# Altium footprint library FootSmell.PcbLib: 5 footprints
Each footprint in its own frame and in the unit in brackets; x right, y up, seen from the top. Pads: shape width x height; smd on the part's side, far side on the other; paste and mask are expansions set on the pad; w line width, h text height; cw(c..) or ccw(c..) is an arc to the next point about the centre after c.
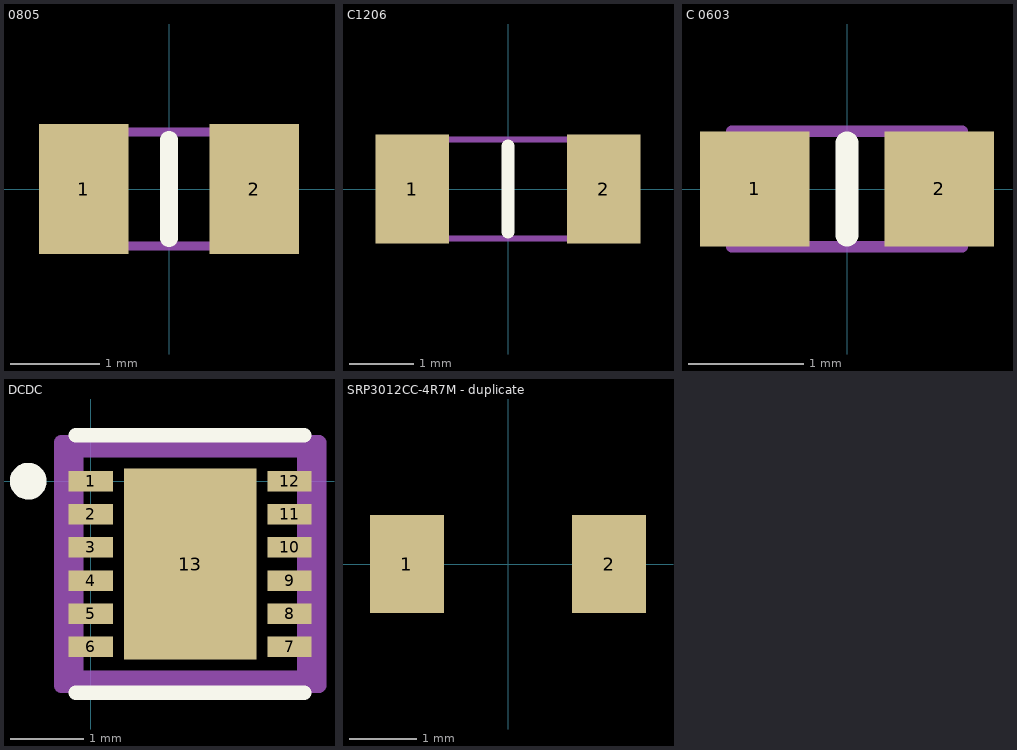
[diagram p0: the footprints below, top view; thin cyan lines are the x and y axes]

## 0805 [mm]
pads (2):
  rect 1x1.45 smd: 1(-0.95,0) 2(0.95,0)
Top Overlay:
  lines w0.2: 0,-0.55 0,0.55
Mechanical 15:
  lines w0.1: -1.397,-0.635 1.397,-0.635 1.397,0.635 -1.397,0.635 -1.397,-0.635
3D body "ERA-6AEB124V.stp": height 0.7, standoff 0.2, extent -1,-0.625 1,0.625

## C1206 [mm]
pads (2):
  rect 1.15x1.7 smd: 1(-1.5,0) 2(1.5,0)
Top Overlay:
  lines w0.2: 0,-0.675 0,0.675
Mechanical 15:
  lines w0.1: -1.6,-0.775 1.6,-0.775 1.6,0.775 -1.6,0.775 -1.6,-0.775
3D body "GRT31CC71E226ME13K.stp": height 2.1, standoff 0.2, extent -1.6,-0.8 1.6,0.8

## C 0603 [mm]
pads (2):
  rect 0.95x1 smd: 1(-0.8,0) 2(0.8,0)
Top Overlay:
  lines w0.2: 0,-0.4 0,0.4
Mechanical 15:
  lines w0.1: -1,-0.5 -1,0.5 1,0.5 1,-0.5 -1,-0.5
3D body "C0603C104J1RACAUTO.stp": height 1.15, standoff 0.2, extent -0.8,-0.4 0.8,0.4

## DCDC [mm]
pads (13):
  rect 0.6x0.28 smd paste+0 mask+0: 1(0,0) 2(0,-0.45) 3(0,-0.9) 4(0,-1.35) 5(0,-1.8) 6(0,-2.25) 7(2.7,-2.25) 8(2.7,-1.8) 9(2.7,-1.35) 10(2.7,-0.9) 11(2.7,-0.45) 12(2.7,0)
  rect 1.8x2.6 smd paste+0 mask+0: 13(1.35,-1.125)
Top Overlay:
  circle w0.25: c-0.85,0 r0.125
  lines w0.2: -0.2,-2.875 2.9,-2.875 ; -0.2,0.625 2.9,0.625
Top Courtyard:
  lines w0.2: -0.4,-2.775 -0.4,0.525 3.1,0.525 3.1,-2.775 -0.4,-2.775
Top 3D Body:
  lines w0.2: -0.2,-2.675 -0.2,0.425 2.9,0.425 2.9,-2.675 -0.2,-2.675
Top Component Center:
  lines w0.1: 0.85,-1.125 1.85,-1.125 ; 1.35,-1.625 1.35,-0.625
Top Assembly:
  lines w0.2: -0.4,-2.775 -0.4,0.525 3.1,0.525 3.1,-2.775 -0.4,-2.775
  text ".Designator" at 1.35,-0.937 h1
3D body "IC_Diodes_Inc_PAM2306DYPAA_eec.STEP": height 0.25, standoff 0, extent -0.4,-2.775 3.1,0.525

## SRP3012CC-4R7M - duplicate [mm]
pads (2):
  rect 1.1x1.45 smd: 1(-1.5,0) 2(1.5,0)
3D body "SRP3012CC-4R7M.stp": height 1.4, standoff 0.2, extent -1.75,-1.6 1.75,1.6